# EAGLE library part ULN2003APWR (library MMULN)
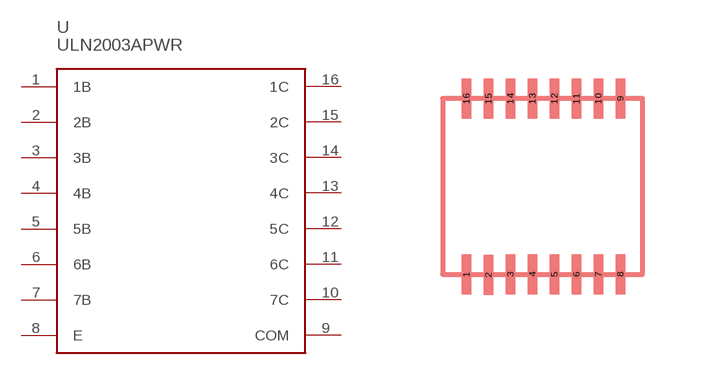
[diagram p0: symbol with the pads of 16-PINSOIC; footprint 16-PINSOIC]

Designator prefix -

## ULN2003APWR  [16-PINSOIC]
1  1B
2  2B
3  3B
4  4B
5  5B
6  6B
7  7B
8  E
9  COM
10  7C
11  6C
12  5C
13  4C
14  3C
15  2C
16  1C

## Footprint 16-PINSOIC (pad centres in mm)
smd 0.245 x 1: 1 -1.9,-2.2; 2 -1.35,-2.22; 3 -0.8,-2.2; 4 -0.25,-2.2; 5 0.3,-2.2; 6 0.85,-2.2; 7 1.4,-2.2; 8 1.95,-2.2; 9 1.95,2.2; 10 1.4,2.2; 11 0.85,2.2; 12 0.3,2.2; 13 -0.25,2.2; 14 -0.8,2.2; 15 -1.35,2.2; 16 -1.9,2.2